# EAGLE library part ATTINY1616 (library ATtiny4313 microcontroller)
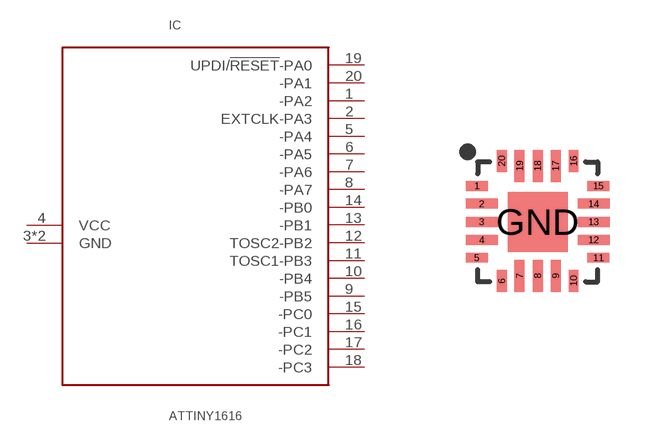
[diagram p1: symbol with the pads of VQFN-20; footprint VQFN-20]

Designator prefix IC

## ATTINY1616  [VQFN-20]
1  -PA2
2  EXTCLK-PA3
3  GND
4  VCC
5  -PA4
6  -PA5
7  -PA6
8  -PA7
9  -PB5
10  -PB4
11  TOSC1-PB3
12  TOSC2-PB2
13  -PB1
14  -PB0
15  -PC0
16  -PC1
17  -PC2
18  -PC3
19  UPDI/!RESET!-PA0
20  -PA1
GND  GND

## Footprint VQFN-20 (pad centres in mm)
smd 0.55 x 0.25: 1 -1.52,0.9; 5 -1.52,-0.9; 11 1.52,-0.9; 15 1.52,0.9
smd 0.8 x 0.25: 2 -1.4,0.45; 3 -1.4,0; 4 -1.4,-0.45; 12 1.4,-0.45; 13 1.4,0; 14 1.4,0.45
smd 0.25 x 0.55: 6 -0.9,-1.48; 10 0.9,-1.48; 16 0.9,1.52; 20 -0.9,1.52
smd 0.25 x 0.8: 7 -0.45,-1.35; 8 0,-1.35; 9 0.45,-1.35; 17 0.45,1.4; 18 0,1.4; 19 -0.45,1.4
smd 1.5 x 1.5: GND 0,0